# Altium schematic symbol library Sajad_Altium_Library.SchLib: 390 symbols (part 4 of 4)
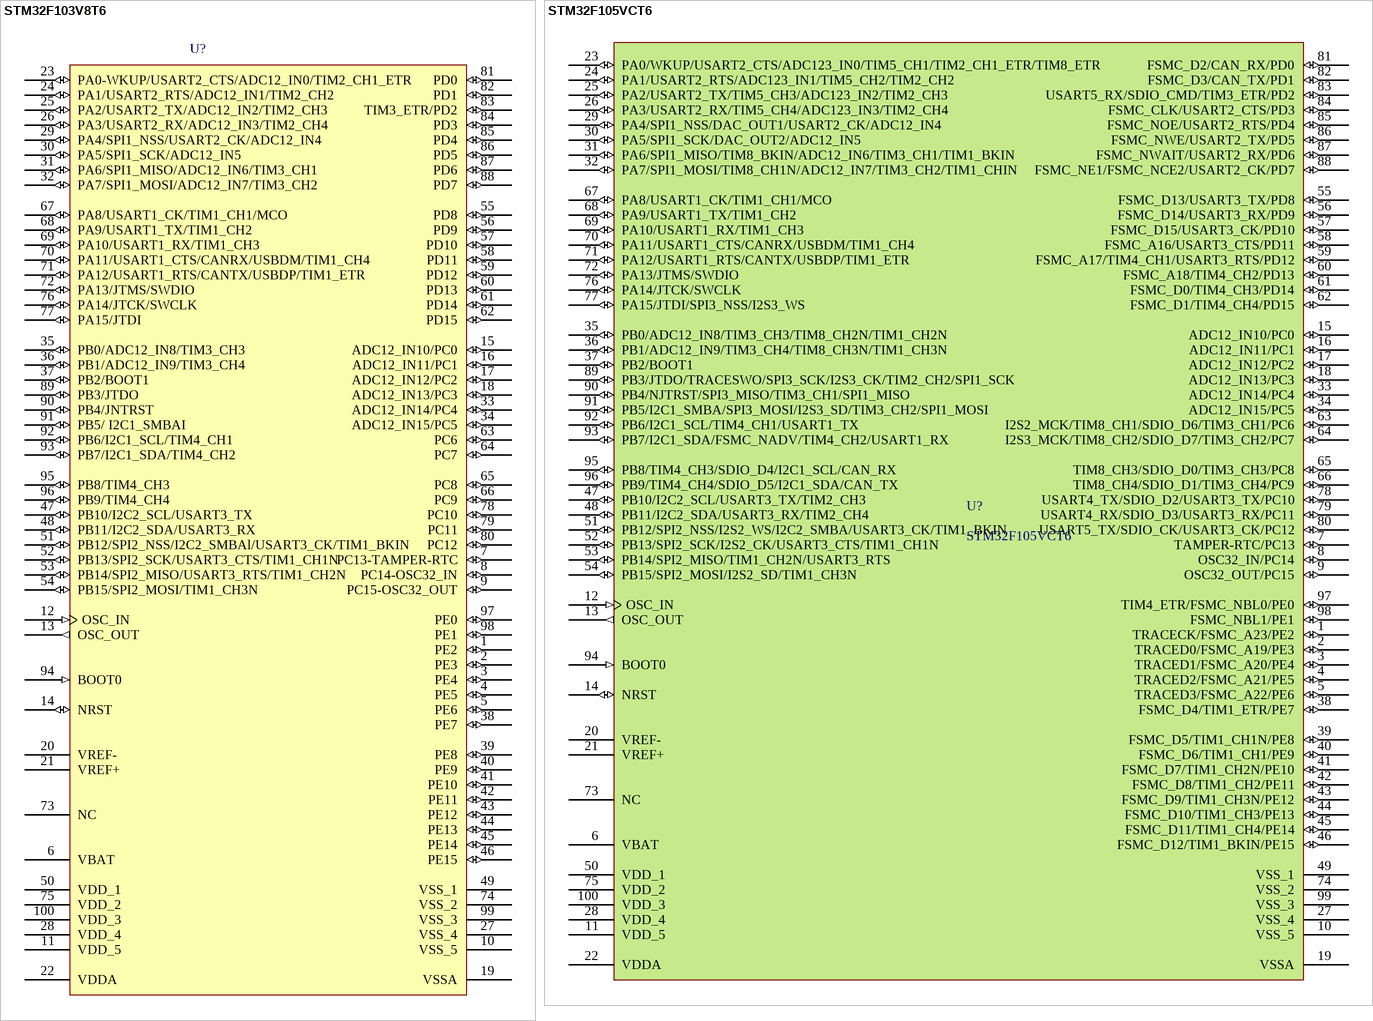
[diagram p22: symbols STM32F103V8T6 to STM32F105VCT6]

## STM32F105VCT6
designator U?
STM32 ARM-based 32-bit MCU with 64 Kbytes Flash, 100-pin LQFP, Industrial Temperature; Published: 30-May-2008; DatasheetVersion: rev6, Mar-2008; PackageVersion: Mar-2008; PackageReference: LQFP100; Publisher: Altium Limited; PackageDescription: 100-Pin Low-Profile Quad Flat Pack, 14 x 14 mm Body, 0.5 mm Pitch (LQFP100); ComponentLink1Description: Manufacturer Link; ComponentLink1URL: www.st.com/stm32; ComponentLink2Description: Datasheet; ComponentLink2URL: http://www.st.com/stonline/products/literature/ds/13587.pdf
footprint LQFP100_M (Thin QFP, 100-Leads, Body 14x14mm, Pitch 0.5mm, IPC Low Density)
pins: 1 TRACECK/FSMC_A23/PE2 (io), 2 TRACED0/FSMC_A19/PE3 (io), 3 TRACED1/FSMC_A20/PE4 (io), 4 TRACED2/FSMC_A21/PE5 (io), 5 TRACED3/FSMC_A22/PE6 (io), 6 VBAT (power), 7 TAMPER-RTC/PC13 (io), 8 OSC32_IN/PC14 (io), 9 OSC32_OUT/PC15 (io), 10 VSS_5 (power), 11 VDD_5 (power), 12 OSC_IN (in), 13 OSC_OUT (out), 14 NRST (io), 15 ADC12_IN10/PC0 (io), 16 ADC12_IN11/PC1 (io), 17 ADC12_IN12/PC2 (io), 18 ADC12_IN13/PC3 (io), 19 VSSA (power), 20 VREF- (power), 21 VREF+ (power), 22 VDDA (power), 23 PA0/WKUP/USART2_CTS/ADC123_IN0/TIM5_CH1/TIM2_CH1_ETR/TIM8_ETR (io), 24 PA1/USART2_RTS/ADC123_IN1/TIM5_CH2/TIM2_CH2 (io), 25 PA2/USART2_TX/TIM5_CH3/ADC123_IN2/TIM2_CH3 (io), 26 PA3/USART2_RX/TIM5_CH4/ADC123_IN3/TIM2_CH4 (io), 27 VSS_4 (power), 28 VDD_4 (power), 29 PA4/SPI1_NSS/DAC_OUT1/USART2_CK/ADC12_IN4 (io), 30 PA5/SPI1_SCK/DAC_OUT2/ADC12_IN5 (io), 31 PA6/SPI1_MISO/TIM8_BKIN/ADC12_IN6/TIM3_CH1/TIM1_BKIN (io), 32 PA7/SPI1_MOSI/TIM8_CH1N/ADC12_IN7/TIM3_CH2/TIM1_CHIN (io), 33 ADC12_IN14/PC4 (io), 34 ADC12_IN15/PC5 (io), 35 PB0/ADC12_IN8/TIM3_CH3/TIM8_CH2N/TIM1_CH2N (io), 36 PB1/ADC12_IN9/TIM3_CH4/TIM8_CH3N/TIM1_CH3N (io), 37 PB2/BOOT1 (io), 38 FSMC_D4/TIM1_ETR/PE7 (io), 39 FSMC_D5/TIM1_CH1N/PE8 (io), 40 FSMC_D6/TIM1_CH1/PE9 (io), 41 FSMC_D7/TIM1_CH2N/PE10 (io), 42 FSMC_D8/TIM1_CH2/PE11 (io), 43 FSMC_D9/TIM1_CH3N/PE12 (io), 44 FSMC_D10/TIM1_CH3/PE13 (io), 45 FSMC_D11/TIM1_CH4/PE14 (io), 46 FSMC_D12/TIM1_BKIN/PE15 (io), 47 PB10/I2C2_SCL/USART3_TX/TIM2_CH3 (io), 48 PB11/I2C2_SDA/USART3_RX/TIM2_CH4 (io), 49 VSS_1 (power), 50 VDD_1 (power), 51 PB12/SPI2_NSS/I2S2_WS/I2C2_SMBA/USART3_CK/TIM1_BKIN (io), 52 PB13/SPI2_SCK/I2S2_CK/USART3_CTS/TIM1_CH1N (io), 53 PB14/SPI2_MISO/TIM1_CH2N/USART3_RTS (io), 54 PB15/SPI2_MOSI/I2S2_SD/TIM1_CH3N (io), 55 FSMC_D13/USART3_TX/PD8 (io), 56 FSMC_D14/USART3_RX/PD9 (io), 57 FSMC_D15/USART3_CK/PD10 (io), 58 FSMC_A16/USART3_CTS/PD11 (io), 59 FSMC_A17/TIM4_CH1/USART3_RTS/PD12 (io), 60 FSMC_A18/TIM4_CH2/PD13 (io), 61 FSMC_D0/TIM4_CH3/PD14 (io), 62 FSMC_D1/TIM4_CH4/PD15 (io), 63 I2S2_MCK/TIM8_CH1/SDIO_D6/TIM3_CH1/PC6 (io), 64 I2S3_MCK/TIM8_CH2/SDIO_D7/TIM3_CH2/PC7 (io), 65 TIM8_CH3/SDIO_D0/TIM3_CH3/PC8 (io), 66 TIM8_CH4/SDIO_D1/TIM3_CH4/PC9 (io), 67 PA8/USART1_CK/TIM1_CH1/MCO (io), 68 PA9/USART1_TX/TIM1_CH2 (io), 69 PA10/USART1_RX/TIM1_CH3 (io), 70 PA11/USART1_CTS/CANRX/USBDM/TIM1_CH4 (io), 71 PA12/USART1_RTS/CANTX/USBDP/TIM1_ETR (io), 72 PA13/JTMS/SWDIO (io), 73 NC, 74 VSS_2 (power), 75 VDD_2 (power), 76 PA14/JTCK/SWCLK (io), 77 PA15/JTDI/SPI3_NSS/I2S3_WS (io), 78 USART4_TX/SDIO_D2/USART3_TX/PC10 (io), 79 USART4_RX/SDIO_D3/USART3_RX/PC11 (io), 80 USART5_TX/SDIO_CK/USART3_CK/PC12 (io), 81 FSMC_D2/CAN_RX/PD0 (io), 82 FSMC_D3/CAN_TX/PD1 (io), 83 USART5_RX/SDIO_CMD/TIM3_ETR/PD2 (io), 84 FSMC_CLK/USART2_CTS/PD3 (io), 85 FSMC_NOE/USART2_RTS/PD4 (io), 86 FSMC_NWE/USART2_TX/PD5 (io), 87 FSMC_NWAIT/USART2_RX/PD6 (io), 88 FSMC_NE1/FSMC_NCE2/USART2_CK/PD7 (io), 89 PB3/JTDO/TRACESWO/SPI3_SCK/I2S3_CK/TIM2_CH2/SPI1_SCK (io), 90 PB4/NJTRST/SPI3_MISO/TIM3_CH1/SPI1_MISO (io), 91 PB5/I2C1_SMBA/SPI3_MOSI/I2S3_SD/TIM3_CH2/SPI1_MOSI (io), 92 PB6/I2C1_SCL/TIM4_CH1/USART1_TX (io), 93 PB7/I2C1_SDA/FSMC_NADV/TIM4_CH2/USART1_RX (io), 94 BOOT0 (in), 95 PB8/TIM4_CH3/SDIO_D4/I2C1_SCL/CAN_RX (io), 96 PB9/TIM4_CH4/SDIO_D5/I2C1_SDA/CAN_TX (io), 97 TIM4_ETR/FSMC_NBL0/PE0 (io), 98 FSMC_NBL1/PE1 (io), 99 VSS_3 (power), 100 VDD_3 (power)

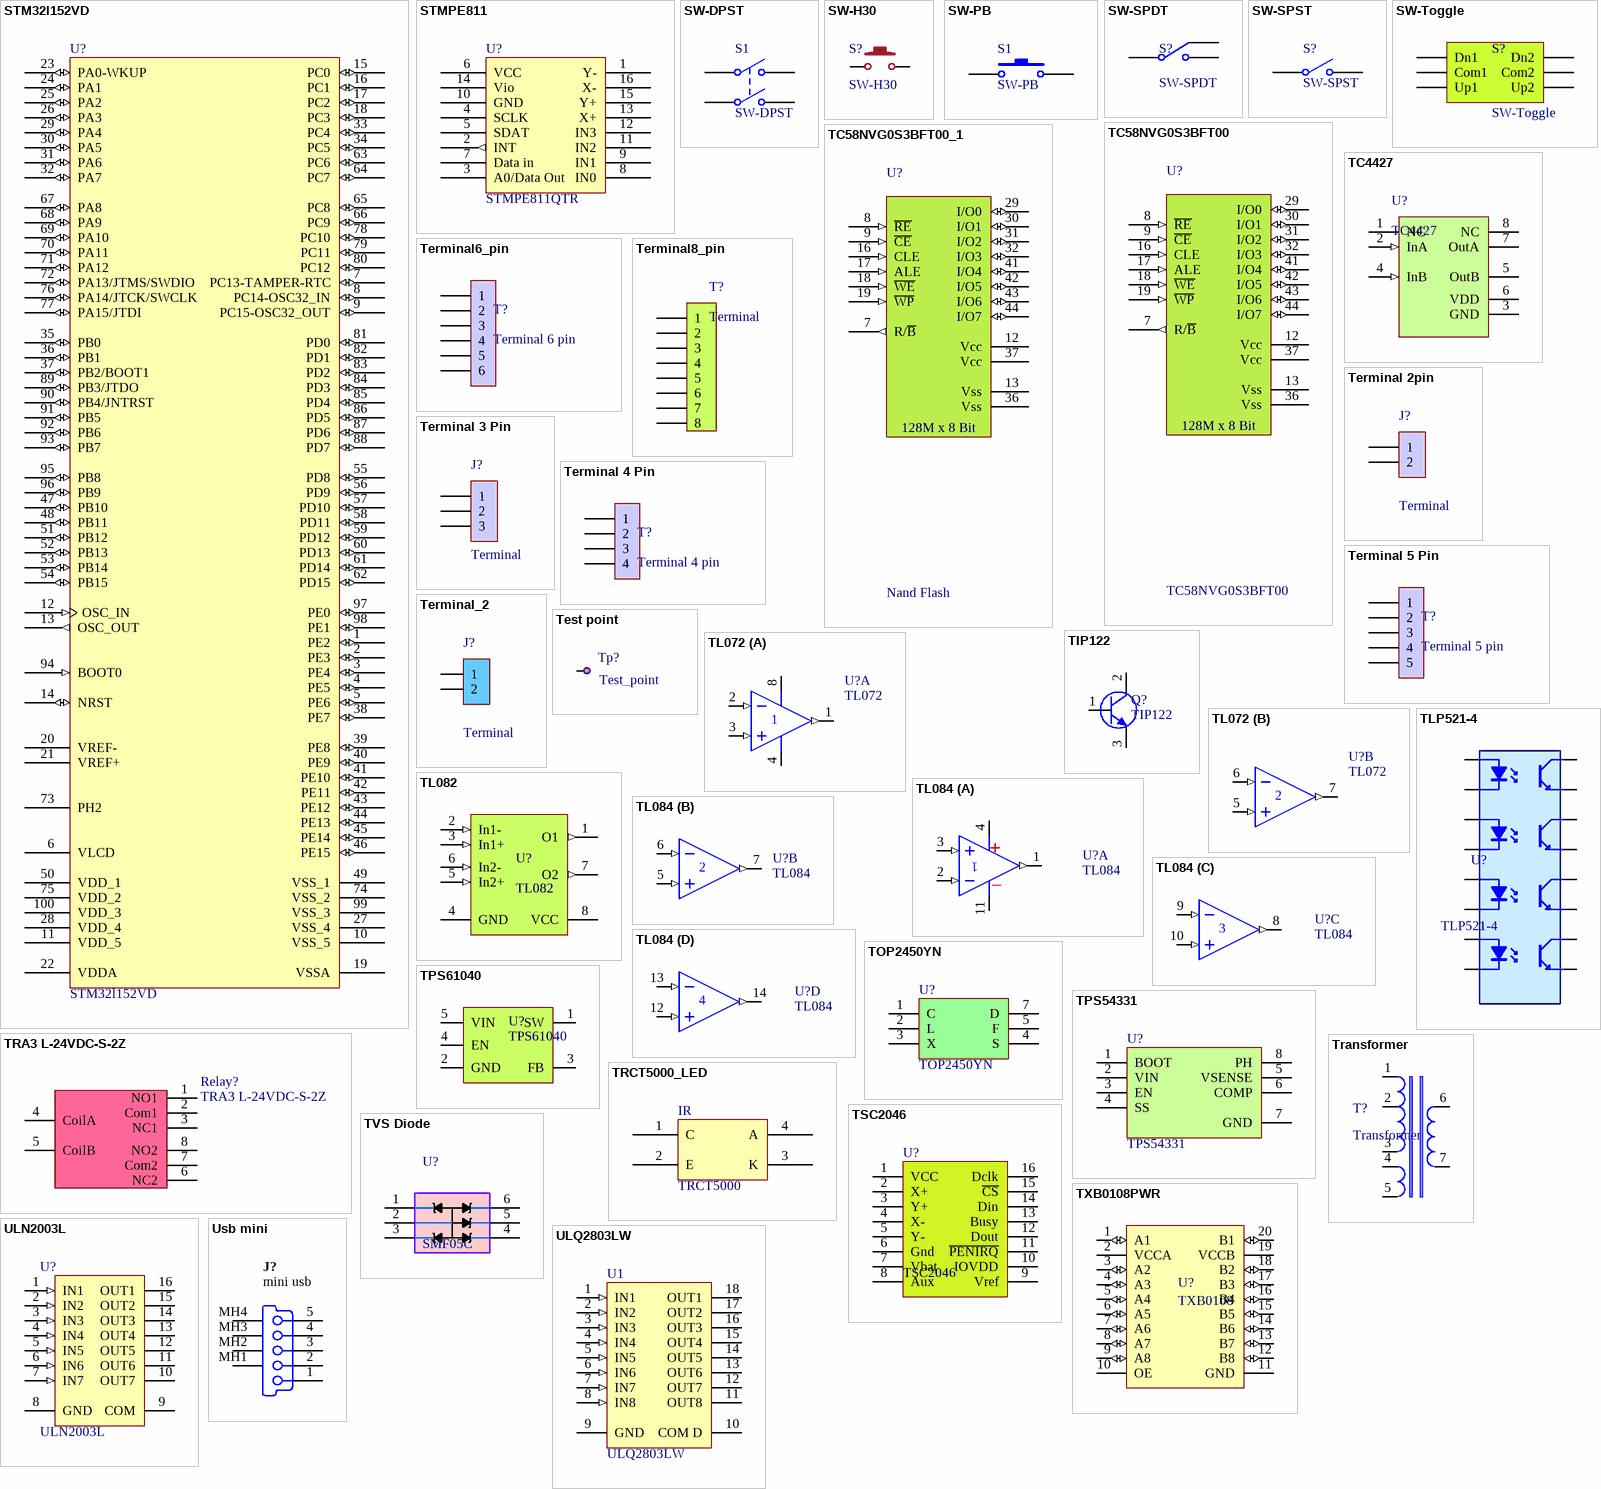
[diagram p18: symbols STM32l152VD to Usb mini]

## STM32l152VD
designator U?
footprint LQFP100_N (Thin QFP, 100-Leads, Body 14x14mm, Pitch 0.5mm, IPC Medium Density)
footprint LQFP100_M (Thin QFP, 100-Leads, Body 14x14mm, Pitch 0.5mm, IPC Low Density)
pins: 1 PE2 (io), 2 PE3 (io), 3 PE4 (io), 4 PE5 (io), 5 PE6 (io), 6 VLCD (power), 7 PC13-TAMPER-RTC (io), 8 PC14-OSC32_IN (io), 9 PC15-OSC32_OUT (io), 10 VSS_5 (power), 11 VDD_5 (power), 12 OSC_IN (in), 13 OSC_OUT (out), 14 NRST (io), 15 PC0 (io), 16 PC1 (io), 17 PC2 (io), 18 PC3 (io), 19 VSSA (power), 20 VREF- (power), 21 VREF+ (power), 22 VDDA (power), 23 PA0-WKUP (io), 24 PA1 (io), 25 PA2 (io), 26 PA3 (io), 27 VSS_4 (power), 28 VDD_4 (power), 29 PA4 (io), 30 PA5 (io), 31 PA6 (io), 32 PA7 (io), 33 PC4 (io), 34 PC5 (io), 35 PB0 (io), 36 PB1 (io), 37 PB2/BOOT1 (io), 38 PE7 (io), 39 PE8 (io), 40 PE9 (io), 41 PE10 (io), 42 PE11 (io), 43 PE12 (io), 44 PE13 (io), 45 PE14 (io), 46 PE15 (io), 47 PB10 (io), 48 PB11 (io), 49 VSS_1 (power), 50 VDD_1 (power), 51 PB12 (io), 52 PB13 (io), 53 PB14 (io), 54 PB15 (io), 55 PD8 (io), 56 PD9 (io), 57 PD10 (io), 58 PD11 (io), 59 PD12 (io), 60 PD13 (io), 61 PD14 (io), 62 PD15 (io), 63 PC6 (io), 64 PC7 (io), 65 PC8 (io), 66 PC9 (io), 67 PA8 (io), 68 PA9 (io), 69 PA10 (io), 70 PA11 (io), 71 PA12 (io), 72 PA13/JTMS/SWDIO (io), 73 PH2, 74 VSS_2 (power), 75 VDD_2 (power), 76 PA14/JTCK/SWCLK (io), 77 PA15/JTDI (io), 78 PC10 (io), 79 PC11 (io), 80 PC12 (io), 81 PD0 (io), 82 PD1 (io), 83 PD2 (io), 84 PD3 (io), 85 PD4 (io), 86 PD5 (io), 87 PD6 (io), 88 PD7 (io), 89 PB3/JTDO (io), 90 PB4/JNTRST (io), 91 PB5 (io), 92 PB6 (io), 93 PB7 (io), 94 BOOT0 (in), 95 PB8 (io), 96 PB9 (io), 97 PE0 (io), 98 PE1 (io), 99 VSS_3 (power), 100 VDD_3 (power)

## STMPE811
designator U?, comment STMPE811QTR
footprint QFN16 (Footprint not found)
footprint QFN16(3X3)
pins: 1 Y-, 2 INT (out), 3 A0/Data Out, 4 SCLK, 5 SDAT, 6 VCC, 7 Data in, 8 IN0, 9 IN1, 10 GND, 11 IN2, 12 IN3, 13 X+, 14 Vio, 15 Y+, 16 X-

## SW-DPST
designator S1
Double-Pole, Single-Throw Switch; Published: 24-Mar-1999; LatestRevisionDate: 17-Jul-2002; LatestRevisionNote: Re-released for DXP Platform.; PackageReference: DPST-4; Publisher: Altium Limited
footprint DPST-4 (Double-Pole, Single-Throw Switch; 4 Leads)
pins: 1 COMMON1, 2 NO1, 3 COMMON2, 4 NO2

## SW-H30
designator S?
Switch H30 CROSS
footprint sw_h30
pins: 1, 2

## SW-PB
designator S1
Switch; Published: 24-Mar-1999; LatestRevisionDate: 17-Jul-2002; LatestRevisionNote: Re-released for DXP Platform.; PackageReference: SPST-2; Publisher: Altium Limited
footprint Button_smd
footprint small Button
footprint PUSH_B
pins: 1, 2

## SW-SPDT
designator S?
Switch
footprint Switch3Pin
pins: 1 NO, 2 COM, 3 NC

## SW-SPST
designator S?
Single-Pole, Single-Throw Switch; Published: 24-Mar-1999; LatestRevisionDate: 17-Jul-2002; LatestRevisionNote: Re-released for DXP Platform.; PackageReference: SPST-2; Publisher: Altium Limited
footprint SPST-2
pins: 1 COMMON, 2 NO

## SW-Toggle
designator S?
Published: 24-Mar-1999; LatestRevisionDate: 17-Jul-2002; LatestRevisionNote: Re-released for DXP Platform.; PackageReference: DPST-4; Publisher: Altium Limited
pins: 1 Dn1, 2 Com1, 3 Up1, 3 Up2, 5 Com2, 6 Dn2

## TC58NVG0S3BFT00
designator U?
1 GBIT (128M ×8 BIT) CMOS NAND E2PROM(Toshiba)
footprint TSOP48 (Shrink Small Outline, Plastic, Thin; 48 Leads; Body Width 18.4 mm; Pitch 0.5 mm)
pins: 7 R/~{B} (out), 8 ~{RE} (in), 9 ~{CE} (in), 12 Vcc, 13 Vss, 16 CLE (in), 17 ALE (in), 18 ~{W}~{E} (in), 19 ~{W}~{P} (in), 29 I/O0 (io), 30 I/O1 (io), 31 I/O2 (io), 32 I/O3 (io), 36 Vss, 37 Vcc, 41 I/O4 (io), 42 I/O5 (io), 43 I/O6 (io), 44 I/O7 (io)
text: 128M x 8 Bit

## TC58NVG0S3BFT00_1
designator U?, comment Nand Flash
1 GBIT (128M ×8 BIT) CMOS NAND E2PROM(Toshiba)
footprint TSOP48 (Shrink Small Outline, Plastic, Thin; 48 Leads; Body Width 18.4 mm; Pitch 0.5 mm)
pins: 7 R/~{B} (out), 8 ~{RE} (in), 9 ~{CE} (in), 12 Vcc, 13 Vss, 16 CLE (in), 17 ALE (in), 18 ~{W}~{E} (in), 19 ~{W}~{P} (in), 29 I/O0 (io), 30 I/O1 (io), 31 I/O2 (io), 32 I/O3 (io), 36 Vss, 37 Vcc, 41 I/O4 (io), 42 I/O5 (io), 43 I/O6 (io), 44 I/O7 (io)
text: 128M x 8 Bit

## TC4427
designator U?
1.5A DUAL HIGH-SPEED POWER MOSFET DRIVERS
footprint SO8
pins: 1 NC, 2 InA (in), 3 GND (power), 4 InB (in), 5 OutB (power), 6 VDD, 7 OutA, 8 NC (power)

## Terminal6_pin
designator T?, comment Terminal 6 pin
footprint Terminal6 (Terminal 6 pin)
footprint Terminal_6 (Terminal 6 pin)
pins: 1, 2, 3, 4, 5, 6

## Terminal8_pin
designator T?, comment Terminal
footprint Terminal8 (Terminal 8 pin)
pins: 1, 2, 3, 4, 5, 6, 7, 8

## Terminal 2pin
designator J?, comment Terminal
power 2pin
footprint TERMINAL2
footprint PLUG2
footprint Terminal_2Pin
footprint T_2Pin_normal
pins: 1, 2

## Terminal 3 Pin
designator J?, comment Terminal
power 3 pin terminal
footprint TERMINAL3
footprint Terminal3Pin
footprint Terminal3pin_
pins: 1, 2, 3

## Terminal 4 Pin
designator T?, comment Terminal 4 pin
footprint Terminal4 (Terminal 4 pin)
footprint Terminal_4 (Terminal 4 pin)
footprint Terminal_4pin
pins: 1, 2, 3, 4

## Terminal 5 Pin
designator T?, comment Terminal 5 pin
footprint Terminal5 (Terminal 5 pin)
pins: 1, 2, 3, 4, 5

## Terminal_2
designator J?, comment Terminal
power 2 pin terminal
footprint Terminal2Pin
footprint 2PinTerminal
pins: 1, 2

## Test point
designator Tp?, comment Test_point
Test point; Published: 8-Jun-2000; LatestRevisionDate: 17-Jul-2002; LatestRevisionNote: Re-released for DXP Platform.; PackageReference: AXIAL-0.3; Publisher: Altium Limited
footprint TestPoint
pins: 1

## TIP122
designator Q?
NPN Epitaxial Darlington Transistor 5A
footprint TO-220 (With Heatsink)
pins: 1 B, 2 C, 3 E

## TL072
designator U?
LOW  NOISE  JFET  INPUT  OPERATIONAL  AMPLIFIERS
footprint SO8
part A pins: 1 OUT (out), 2 IN- (in), 3 IN+ (in), 4 V- (power), 8 V+ (power)
part B pins: 5 IN+ (in), 6 IN- (in), 7 OUT (out)

## TL082
designator U?
JFET-Input Operational Amplifier
footprint SO8
pins: 1 O1 (out), 2 In1- (in), 3 In1+ (in), 4 GND (power), 5 In2+ (in), 6 In2- (in), 7 O2 (out), 8 VCC (power)

## TL084
designator U?
JFET-Input Operational Amplifier 14-SOIC
footprint SO14_M (SOIC, 14-Leads, Body 8.7x3.9mm, Pitch 1.27mm, IPC Low Density)
part A pins: 1 OUT (out), 2 IN- (in), 3 IN+ (in), 4 V- (power), 11 V+ (power)
part B pins: 5 IN+ (in), 6 IN- (in), 7 OUT (out)
part C pins: 8 OUT (out), 9 IN- (in), 10 IN+ (in)
part D pins: 12 IN+ (in), 13 IN- (in), 14 OUT (out)

## TLP521-4
designator U?
4 Optoisolator
footprint DIP16SMD (DIP; 16 Leads; Row Spacing 7.62 mm; Pitch 2.54 mm)
pins: 1 A "Anode", 2 K "Cathode", 3 A "Anode", 4 K "Cathode", 5 A "Anode", 6 K "Cathode", 7 A "Anode", 8 K "Cathode", 9 E "Emitter", 10 C "Collector", 11 E "Emitter", 12 C "Collector", 13 E "Emitter", 14 C "Collector", 15 E "Emitter", 16 C "Collector"

## TOP2450YN
designator U?
Integrated Off-line Switcher
pins: 1 C, 2 L, 3 X (power), 4 S, 5 F (oe), 7 D (oe)

## TPS54331
designator U?
DC/DC Switching Regulators 2A,28V,1MHz Step Down SWIFT DC/D;Output Voltage:0.8 V to 25 V; Link: http://javanelec.com/productsDetails.aspx?id=33786
footprint SO8
pins: 1 BOOT, 2 VIN, 3 EN, 4 SS (power), 5 VSENSE, 6 COMP (power), 7 GND, 8 PH (oc)

## TPS61040
designator U?
LOW POWER DC/DC BOOST CONVERTER IN SOT-23 PACKAGE
footprint SOT23-5
pins: 1 SW, 2 GND, 3 FB, 4 EN, 5 VIN

## TRA3 L-24VDC-S-2Z
designator Relay?
footprint RELAY_24
pins: 1 NO1 (power) "Normally Opened", 2 Com1 (power) "Common A", 3 NC1 (power) "Normally Closed", 4 CoilA "Coil A", 5 CoilB "Coil A", 6 NC2 (power) "Normally Closed", 7 Com2 (power) "Common A", 8 NO2 (power) "Normally Opened"

## Transformer
designator T?
Transformer for Switching
pins: 1, 2, 3, 4, 5, 6, 7

## TRCT5000_LED
designator IR, comment TRCT5000
footprint TCRT3000
pins: 1 C, 2 E, 3 K, 4 A

## TSC2046
designator U?
Touch Screen Controller
footprint TSSOP 16 (16-pin, 4.40 mm body, 0.65 mm pitch)
pins: 1 VCC, 2 X+, 3 Y+, 4 X-, 5 Y-, 6 Gnd, 7 Vbat, 8 Aux, 9 Vref, 10 IOVDD, 11 ~{PENIRQ}, 12 Dout, 13 Busy, 14 Din, 15 ~{CS}, 16 Dclk

## TVS Diode
designator U?, comment SMF05C
TVS Diode Array  For ESD and Latch-Up Protection
footprint SC706
pins: 1 L1 "Speed", 2 Gnd, 3 L3 "Speed", 4 L4 "Speed", 5 L5 "Speed", 6 L6 "Speed"

## TXB0108PWR
designator U?, comment TXB0108
Translation - Voltage Levels 8-Bit Bi-directional; Manufacturer: Texas Instruments; Manufacturer Part Number: TXB0108PWR; Propagation Delay Time: 9.5 ns; Supply Voltage - Max: 3.6 V, 5.5 V; Supply Voltage - Min: 1.2 V, 1.65 V; Supplier 1: Mouser; RoHS: RoHS Compliant; Category: Translation - Voltage Levels; Stock 1: 31241; Pricing 1: 1=1.84, 10=1.66, 25=1.44, 50=1.35, 100=1.34, 250=1.18, 500=1.01, 750=0.904, 1000=0.832, 2000=0.832 (EUR); Package/Case: TSSOP-20; Packaging: Reel; Series: TXB0108; Brand: Texas Instruments; Mounting Style: SMD/SMT; Maximum Operating Temperature: + 85 C; Minimum Operating Temperature: - 40 C; Product Category: Logic - Voltage Level Translation; Standard Pack Qty: 2000; RoHS - Mouser: Y; Minimum Order Quantity: 1; Reeling: True; ComponentLink1URL: http://www.mouser.com/ds/2/405/sces643e-127095.pdf; ComponentLink1Description: http://www.mouser.com/ds/2/405/sces643e-127095.pdf
footprint TSSOP20 (TSSOP 20 Pin)
pins: 1 A1 (io), 2 VCCA (power), 3 A2 (io), 4 A3 (io), 5 A4 (io), 6 A5 (io), 7 A6 (io), 8 A7 (io), 9 A8 (io), 10 OE, 11 GND (power), 12 B8 (io), 13 B7 (io), 14 B6 (io), 15 B5 (io), 16 B4 (io), 17 B3 (io), 18 B2 (io), 19 VCCB (power), 20 B1 (io)

## ULN2003L
designator U?
High-Voltage, High-Current Darlington Array; Published: 13-Oct-2000; LatestRevisionDate: 13-Apr-2006; LatestRevisionNote: IPC-7351 Footprint Added.; DatasheetVersion: 1998; PackageReference: L16; Publisher: Altium Limited; PackageDescription: 16-Pin Small Outline Integrated Circuit 1.27 mm Pitch; Code_JEDEC: MS-012-AC; Code_IPC: SOIC127P600-16; ComponentLink1Description: Manufacturer Link; ComponentLink1URL: http://www.allegromicro.com/
footprint SO16
pins: 1 IN1 (in), 2 IN2 (in), 3 IN3 (in), 4 IN4 (in), 5 IN5 (in), 6 IN6 (in), 7 IN7 (in), 8 GND (power), 9 COM, 10 OUT7 (oc), 11 OUT6 (oc), 12 OUT5 (oc), 13 OUT4 (oc), 14 OUT3 (oc), 15 OUT2 (oc), 16 OUT1 (oc)

## ULQ2803LW
designator U1
High-Voltage, High-Current Darlington Array; Published: 13-Oct-2000; LatestRevisionDate: 13-Apr-2006; LatestRevisionNote: IPC-7351 Footprint Added.; DatasheetVersion: 1999; PackageReference: LW18; Publisher: Altium Limited; PackageDescription: 18-Pin Small Outline Integrated Circuit 1.27 mm Pitch; Code_JEDEC: MS-013-AB; ComponentLink1Description: Manufacturer Link; ComponentLink1URL: http://www.allegromicro.com/
footprint SO18 (SOIC, 18-Leads, Body 11.6x7.5mm, Pitch 1.27mm, IPC Low Density)
pins: 1 IN1 (in), 2 IN2 (in), 3 IN3 (in), 4 IN4 (in), 5 IN5 (in), 6 IN6 (in), 7 IN7 (in), 8 IN8 (in), 9 GND (power), 10 COM D, 11 OUT8 (oc), 12 OUT7 (oc), 13 OUT6 (oc), 14 OUT5 (oc), 15 OUT4 (oc), 16 OUT3 (oc), 17 OUT2 (oc), 18 OUT1 (oc)

## Usb mini
designator J?, comment mini usb
USB On-The-Go (OTG) Mini-B Receptacle, Right Angle, SMT, 0.80mm (.031") Pitch, Solder Tabs with Back Cover, Recessed Type; Max Current: mA; Connector type: Right Angle; Mounting Technology: Surface Mount; Status: Unreleased; Category: Connector
footprint 481900001
pins: 1, 2, 3, 4, 5, MH1, MH2, MH3, MH4

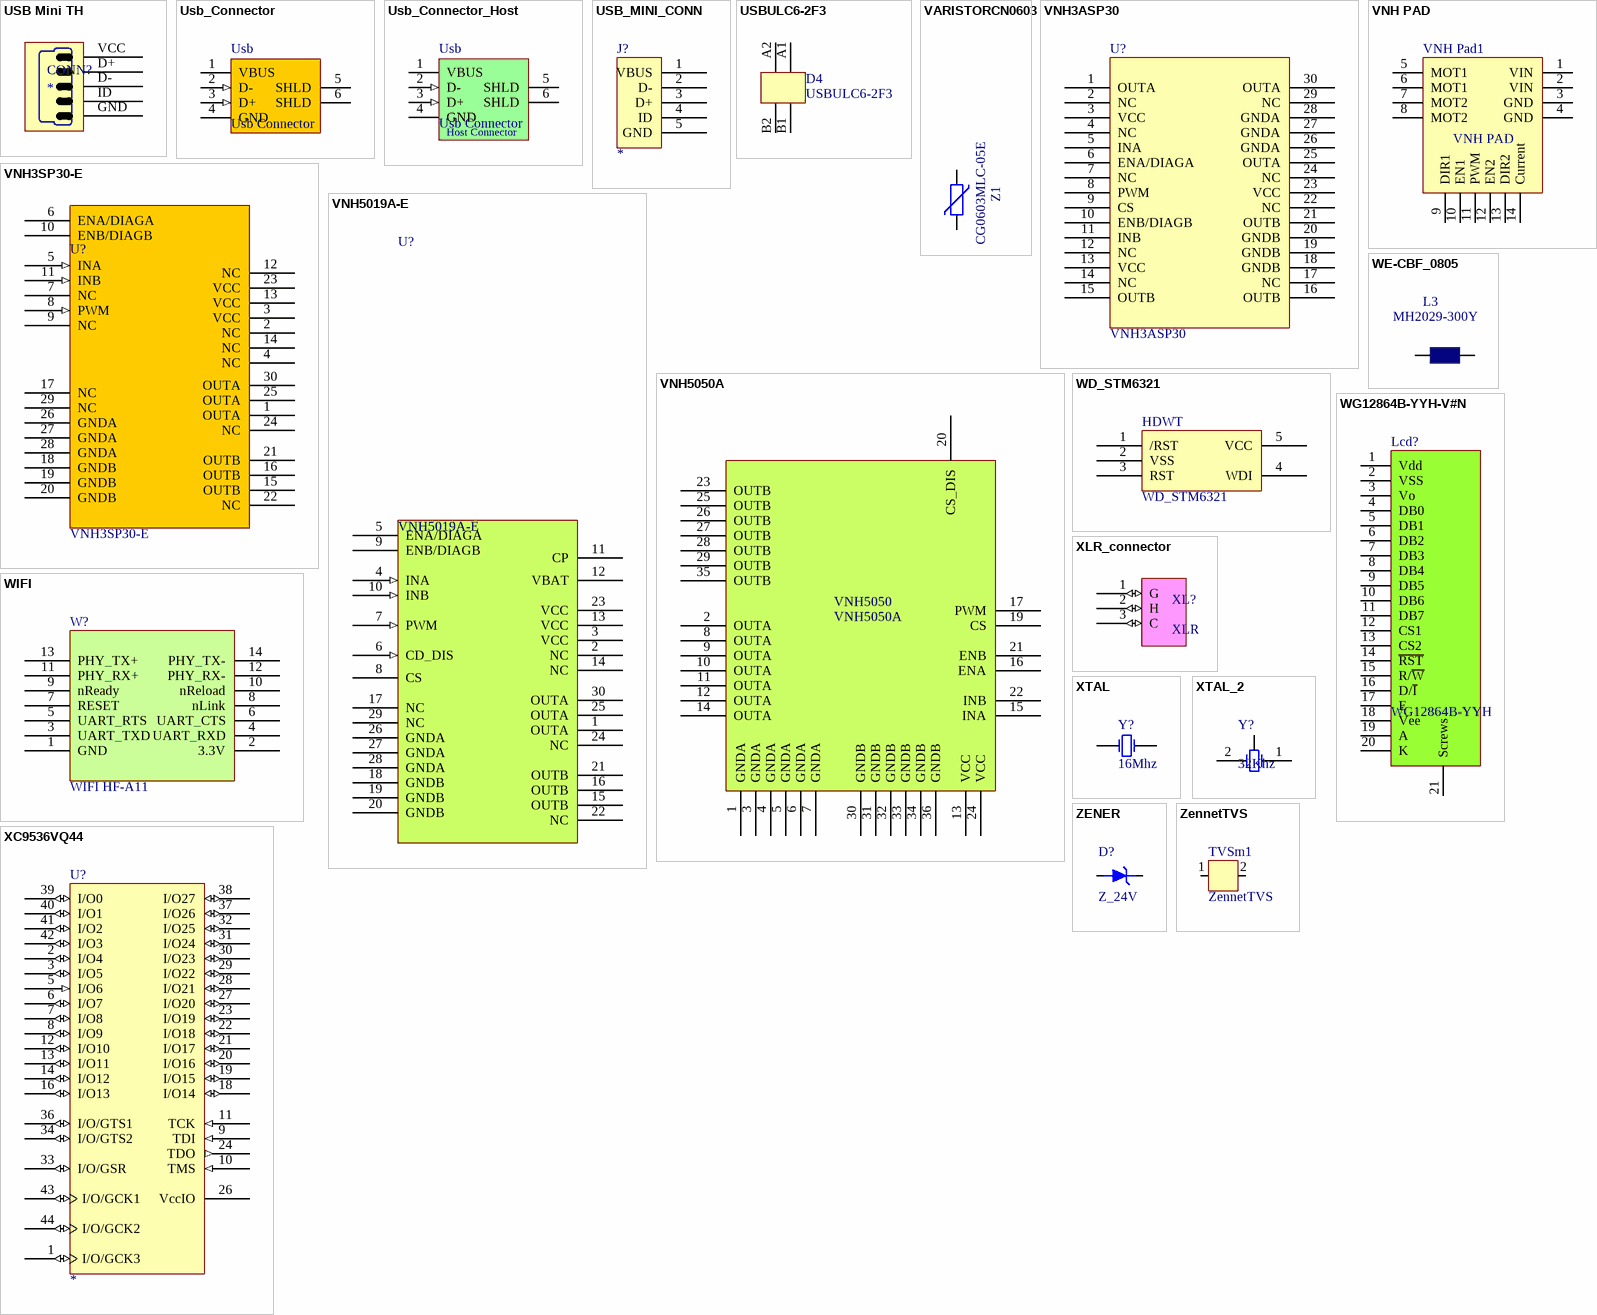
[diagram p19: symbols USB Mini TH to ZennetTVS]

## USB Mini TH
designator CONN?
footprint USB Mini TH (USB Mini MOLEX 548190519)
pins: D+ 2, D- 3, GND 5, ID 4, VCC

## Usb_Connector
designator Usb, comment Usb Connector
On Board Usb Connector; Published: 15-Apr-2002; DatasheetVersion: Jul-1999; PackageVersion: Jul-1999; PackageReference: 314D-03; Publisher: Altium Limited; PackageDescription: TO, Thru-Hole, Vertical, Heatsink Mounted; 5 In-Line Leads; Pitch 1.70 mm; Code_JEDEC: TS-001-AA; ComponentLink1Description: Manufacturer Link; ComponentLink1URL: http://www.onsemi.com/site/products/taxonomy/0,4438,503,00.html; ComponentLink2Description: Datasheet; ComponentLink2URL: http://www.onsemi.com/pub/Collateral/LM2576-D.PDF
footprint Usb Connector
pins: 1 VBUS (power), 2 D- (in), 3 D+ (in), 4 GND (power), 5 SHLD (power), 6 SHLD (power)

## Usb_Connector_Host
designator Usb, comment Usb Connector
On Board Usb Connector; Published: 15-Apr-2002; DatasheetVersion: Jul-1999; PackageVersion: Jul-1999; PackageReference: 314D-03; Publisher: Altium Limited; PackageDescription: TO, Thru-Hole, Vertical, Heatsink Mounted; 5 In-Line Leads; Pitch 1.70 mm; Code_JEDEC: TS-001-AA; ComponentLink1Description: Manufacturer Link; ComponentLink1URL: http://www.onsemi.com/site/products/taxonomy/0,4438,503,00.html; ComponentLink2Description: Datasheet; ComponentLink2URL: http://www.onsemi.com/pub/Collateral/LM2576-D.PDF
footprint USB2.5-2H4 (Connector; USB1.1, Series A, Reverse Type, Thru-Hole; 4 Position; Right Angle)
pins: 1 VBUS (power), 2 D- (in), 3 D+ (in), 4 GND (power), 5 SHLD (power), 6 SHLD (power)
text: Host Connector

## USB_MINI_CONN
designator J?
USB Mini Connector
footprint KMBSMT5SS30
pins: 1 VBUS (power), 2 D-, 3 D+, 4 ID, 5 GND (power)

## USBULC6-2F3
designator D4
footprint BGA4_0R4_1X1 (Footprint not found)
pins: A1, A2, B1, B2

## VARISTORCN0603
designator Z1, comment CG0603MLC-05E
footprint CT/CN0603 (EPCOS SMD Varistors, MLV; Standard Series)
pins: 1, 2

## VNH3ASP30
designator U?
footprint VNH3ASP30-E
pins: 1 OUTA, 2 NC, 3 VCC, 4 NC, 5 INA, 6 ENA/DIAGA, 7 NC, 8 PWM, 9 CS, 10 ENB/DIAGB, 11 INB, 12 NC, 13 VCC, 14 NC, 15 OUTB, 16 OUTB, 17 NC, 18 GNDB, 19 GNDB, 20 GNDB, 21 OUTB, 22 NC, 23 VCC, 24 NC, 25 OUTA, 26 GNDA, 27 GNDA, 28 GNDA, 29 NC, 30 OUTA

## VNH3SP30-E
designator U?
Automotive fully integrated H-bridge motor driver
footprint VNH3ASP30-E
pins: 1 OUTA, 2 NC, 3 VCC, 4 NC (hiz), 5 INA (in), 6 ENA/DIAGA, 7 NC, 8 PWM (in), 9 NC, 10 ENB/DIAGB, 11 INB (in), 12 NC, 13 VCC, 14 NC, 15 OUTB, 16 OUTB, 17 NC, 18 GNDB, 19 GNDB, 20 GNDB, 21 OUTB, 22 NC, 23 VCC, 24 NC, 25 OUTA, 26 GNDA, 27 GNDA, 28 GNDA, 29 NC, 30 OUTA

## VNH5019A-E
designator U?
Automotive fully integrated   H-bridge motor driver
footprint MultiPowerSO-30
pins: 1 OUTA, 2 NC, 3 VCC, 4 INA (in), 5 ENA/DIAGA, 6 CD_DIS (in), 7 PWM (in), 8 CS, 9 ENB/DIAGB, 10 INB (in), 11 CP, 12 VBAT, 13 VCC, 14 NC, 15 OUTB, 16 OUTB, 17 NC, 18 GNDB, 19 GNDB, 20 GNDB, 21 OUTB, 22 NC, 23 VCC, 24 NC, 25 OUTA, 26 GNDA, 27 GNDA, 28 GNDA, 29 NC, 30 OUTA

## VNH5050A
designator VNH5050
footprint VNH5050A
pins: 1 GNDA, 2 OUTA, 3 GNDA, 4 GNDA, 5 GNDA, 6 GNDA, 7 GNDA, 8 OUTA, 9 OUTA, 10 OUTA, 11 OUTA, 12 OUTA, 13 VCC, 14 OUTA, 15 INA, 16 ENA, 17 PWM, 19 CS, 20 CS_DIS, 21 ENB, 22 INB, 23 OUTB, 24 VCC, 25 OUTB, 26 OUTB, 27 OUTB, 28 OUTB, 29 OUTB, 30 GNDB, 31 GNDB, 32 GNDB, 33 GNDB, 34 GNDB, 35 OUTB, 36 GNDB

## VNH PAD
designator VNH Pad1
footprint VNH_PAD
pins: 1 VIN, 2 VIN, 3 GND, 4 GND, 5 MOT1, 6 MOT1, 7 MOT2, 8 MOT2, 9 DIR1, 10 EN1, 11 PWM, 12 EN2, 13 DIR2, 14 Current

## WD_STM6321
designator HDWT
footprint WD_STM6321
pins: 1 /RST, 2 VSS, 3 RST, 4 WDI, 5 VCC

## WE-CBF_0805
designator L3, comment MH2029-300Y
footprint 0805 (Multilayer SMD)
pins: 1, 2

## WG12864B-YYH-V#N
designator Lcd?, comment WG12864B-YYH
WINSTAR LCD 128X48 Module
footprint WG12864B-YYH (Lcd Module)
pins: 1 Vdd, 2 VSS, 3 Vo, 4 DB0, 5 DB1, 6 DB2, 7 DB3, 8 DB4, 9 DB5, 10 DB6, 11 DB7, 12 CS1, 13 CS2, 14 ~{RST}, 15 R/~{W}, 16 D/~{I}, 17 E, 18 Vee, 19 A, 20 K, 21 Screws

## WIFI
designator W?, comment WIFI HF-A11
footprint HF-A11 Wifi Module
pins: 1 GND, 2 3.3V, 3 UART_TXD, 4 UART_RXD, 5 UART_RTS, 6 UART_CTS, 7 RESET, 8 nLink, 9 nReady, 10 nReload, 11 PHY_RX+, 12 PHY_RX-, 13 PHY_TX+, 14 PHY_TX-
2 alternate drawings of the same symbol

## XC9536VQ44
designator U?
Xilinx 9500 Series 44 pin VQFP
footprint TQFP44
pins: 1 I/O/GCK3 (io), 2 I/O4 (io), 3 I/O5 (io), 4 GND (power) hidden to GND, 5 I/O6 (in), 6 I/O7 (io), 7 I/O8 (io), 8 I/O9 (io), 9 TDI (in), 10 TMS (in), 11 TCK (in), 12 I/O10 (io), 13 I/O11 (io), 14 I/O12 (io), 15 VCC (power) hidden to VCC, 16 I/O13 (io), 17 GND (power) hidden to GND, 18 I/O14 (io), 19 I/O15 (io), 20 I/O16 (io), 21 I/O17 (io), 22 I/O18 (io), 23 I/O19 (io), 24 TDO (out), 25 GND (power) hidden to GND, 26 VccIO (power), 27 I/O20 (io), 28 I/O21 (io), 29 I/O22 (io), 30 I/O23 (io), 31 I/O24 (io), 32 I/O25 (io), 33 I/O/GSR (io), 34 I/O/GTS2 (io), 35 VCC (power) hidden to VCC, 36 I/O/GTS1 (io), 37 I/O26 (io), 38 I/O27 (io), 39 I/O0 (io), 40 I/O1 (io), 41 I/O2 (io), 42 I/O3 (io), 43 I/O/GCK1 (io), 44 I/O/GCK2 (io)

## XLR_connector
designator XL?, comment XLR
XLR connector
footprint XLR
footprint XLR_PCB
pins: 1 G (io), 2 H (io), 3 C (io)

## XTAL
designator Y?, comment 16Mhz
Crystal Oscillator; Published: 8-Jun-2000; LatestRevisionDate: 17-Jul-2002; LatestRevisionNote: Re-released for DXP Platform.; PackageReference: R38; Publisher: Altium Limited
footprint Crystal (16 Mhz Crystal footprint)
footprint Crystal_smd (16 Mhz Crystal footprint)
footprint 32748CRYSTAL
footprint XTAL_round
pins: 1 OSC1, 2 OSC2

## XTAL_2
designator Y?, comment 32Khz
Crystal Oscillator; Published: 8-Jun-2000; LatestRevisionDate: 17-Jul-2002; LatestRevisionNote: Re-released for DXP Platform.; PackageReference: R38; Publisher: Altium Limited
footprint 32748CRYSTAL
pins: 1 OSC1, 2 OSC2, 3 Gnd "Chasis"

## ZENER
designator D?, comment Z_24V
Zener Diode
footprint mini melf (1n4148 smd)
footprint SOD123 (Sod123)
pins: 1 A, 2 K

## ZennetTVS
designator TVSm1
footprint DIODE_ZENER_TVS
pins: 1, 2